# EAGLE library part 6-PIN-LINEAL-JUMPER (library boscoverysat)
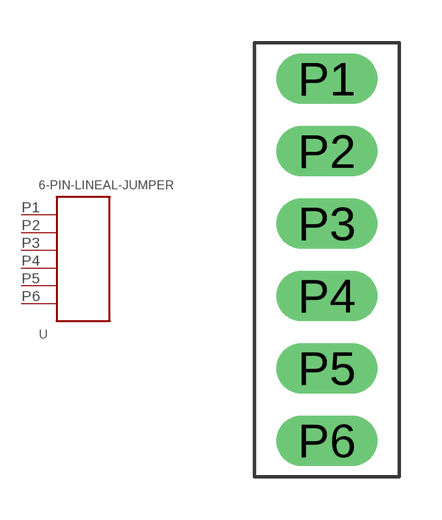
[diagram p4: symbol with the pads of 6-PIN-LINEAR-JUMPER; footprint 6-PIN-LINEAR-JUMPER]

Designator prefix -

## 6-PIN-LINEAL-JUMPER  [6-PIN-LINEAR-JUMPER]
P1  P$1
P2  P$2
P3  P$3
P4  P$4
P5  P$5
P6  P$6

## Footprint 6-PIN-LINEAR-JUMPER (pad centres in mm)
drill 0.254 pad 1.778 long: P1 0,12.7; P2 0,10.16; P3 0,7.62; P4 0,5.08; P5 0,2.54; P6 0,0